# Altium footprint library qfc.PcbLib: 40 footprints (part 3 of 3)
Each footprint in its own frame and in the unit in brackets; x right, y up, seen from the top. Pads: shape width x height; smd on the part's side, far side on the other; paste and mask are expansions set on the pad; w line width, h text height; cw(c..) or ccw(c..) is an arc to the next point about the centre after c.
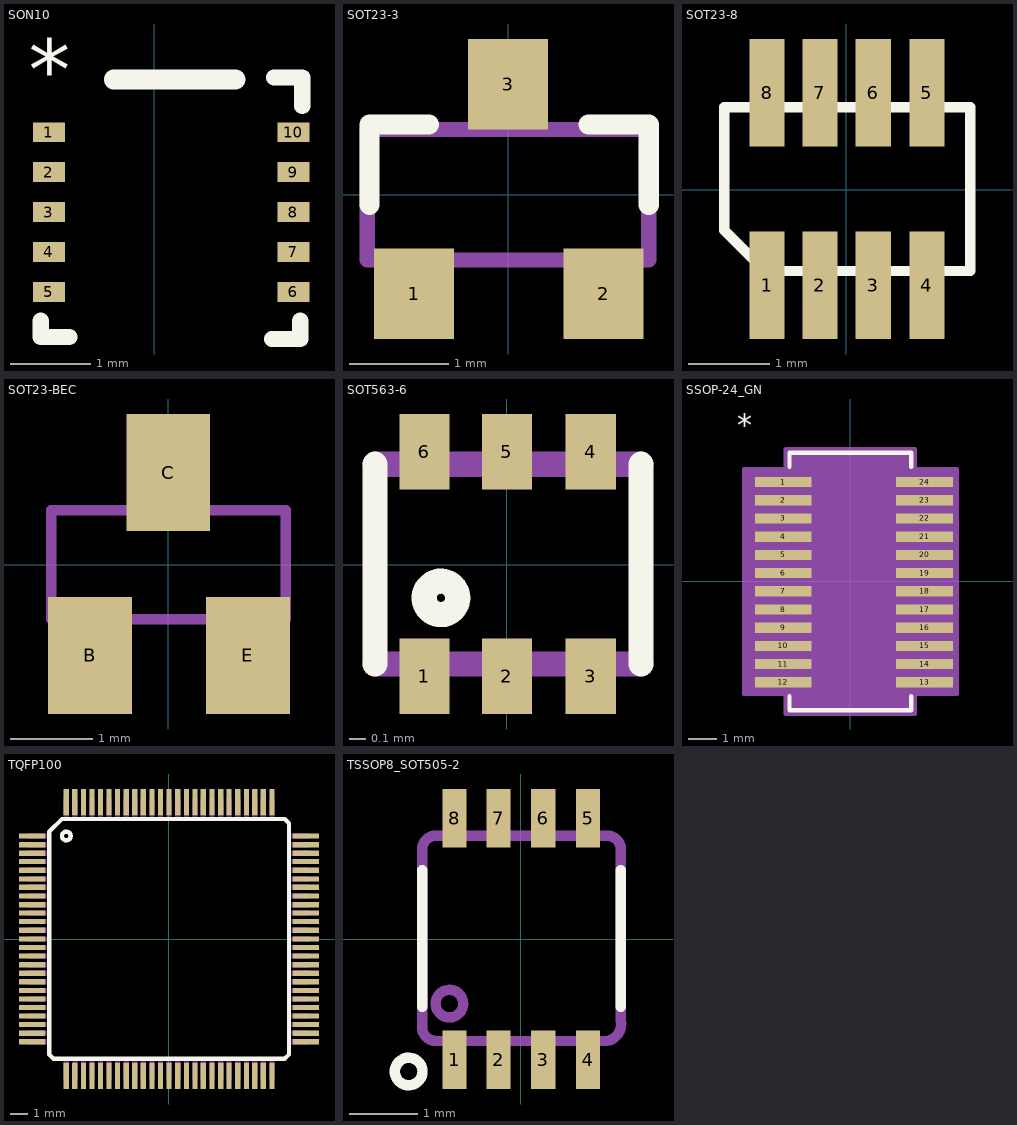
[diagram p2: the footprints below, top view; thin cyan lines are the x and y axes]

## SON10 [mm]
pads (10):
  rect 0.4x0.25 smd: 1(-1.321,-1.676) 2(-1.321,-2.176) 3(-1.321,-2.676) 4(-1.321,-3.176) 5(-1.321,-3.676) 6(1.743,-3.676) 7(1.743,-3.176) 8(1.743,-2.676) 9(1.743,-2.176) 10(1.743,-1.676)
Top Overlay:
  lines w0.203: -1.422,-4.039 -1.422,-4.242 -1.067,-4.242 ; 1.473,-4.267 1.829,-4.267 1.829,-4.039 ; 1.499,-0.991 1.854,-0.991 1.854,-1.346
  lines w0.25: -0.508,-1.016 1.016,-1.016
  text "*" at -1.575,-1.27 h0.76
3D body: height 1, standoff 0, extent -1.308,-4.055 1.714,-1.245

## SOT23-3 [mil] "SOT23-3"
pads (3):
  rect 32x36 smd: 1(-37.4,-39.37) 2(38,-39.37) 3(0,44)
Top Overlay:
  lines w8: -55.12,-3.94 -55.12,28 -31.5,28 ; 32,28 56,28 56,-3.94
Mechanical 16:
  lines w6: -56,-26 56,-26 56,26 -56,26 -56,-26
3D body: height 51.18, standoff 0, extent -57.09,-55.12 57.09,55.12

## SOT23-8 [mil] "SOT23-8"
pads (8):
  rect 17x52 smd: 1(-38.39,-46.26) 2(-12.8,-46.26) 3(13,-46.26) 4(39,-46.26) 5(39,47) 6(13,47) 7(-12.8,47) 8(-38.39,47)
Top Overlay:
  lines w5: -59.06,-19.68 -59.06,40 60,40 60,-39.37 -39.37,-39.37 -59.06,-19.68
3D body: height 43.6, standoff 0, extent -59.05,-55.19 59.06,55.19

## SOT23-BEC [mil] "SOT23-BEC"
pads (3):
  rect 40x56 smd: B(-37.4,-43.31) C(0,44) E(38,-43.31)
Mechanical 16:
  rectangle: -9,27.99 9,50.99
  rectangle: 28,-51.01 46,-28.01
  rectangle: -46,-51.01 -28,-28.01
  lines w5: -56,-26 56,-26 56,26 -56,26 -56,-26
3D body: height 51.18, standoff 0, extent -57.09,-55.12 57.09,55.12

## SOT563-6 [mil] "SOT563-6"
pads (6):
  rect 12x18 smd: 1(-19.68,-26.57) 2(0,-26.57) 3(20,-26.57) 4(20,27) 5(0,27) 6(-19.68,27)
Top Overlay:
  circle w6: c-15.75,-7.87 r4
  lines w6: -31.5,-23.62 -31.5,24 ; 32,-23.62 32,24
Mechanical 16:
  lines w6: -31.5,-23.62 32,-23.62 ; -31.5,24 32,24
3D body: height 23, standoff 0, extent -31.5,-32 31.5,32

## SSOP-24_GN [mil]
pads (24):
  rect 78x14 smd: 1(-92,136.5) 2(-92,111.5) 3(-92,86.5) 4(-92,61.5) 5(-92,36.5) 6(-92,11.5) 7(-92,-13.5) 8(-92,-38.5) 9(-92,-63.5) 10(-92,-88.5) 11(-92,-113.5) 12(-92,-138.5) 13(102,-138.5) 14(102,-113.5) 15(102,-88.5) 16(102,-63.5) 17(102,-38.5) 18(102,-13.5) 19(102,11.5) 20(102,36.5) 21(102,61.5) 22(102,86.5) 23(102,111.5) 24(102,136.5)
Top Overlay:
  lines w6: -83.5,-157.6 -83.5,-177 83.5,-177 83.5,-157.6 ; -83.5,157.6 -83.5,177 83.5,177 83.5,157.6
  text "*" at -155,200 h30
Mechanical 13:
  lines w0: -12,172 ccw(c0,172) 12,172
  text "*" at -110,200 h30
Mechanical 15:
  region: -88.5,-154.5 -146,-154.5 -146,154.5 -88.5,154.5 -88.5,182 88.5,182 88.5,154.5 146,154.5 146,-154.5 88.5,-154.5 88.5,-182 -88.5,-182
  lines w6: -146,-154.5 -146,154.5 -88.5,154.5 -88.5,182 88.5,182 88.5,154.5 146,154.5 146,-154.5 88.5,-154.5 88.5,-182 -88.5,-182 -88.5,-154.5 -146,-154.5
3D body: height 67.1, standoff 0, extent -125,-174 119,170

## TQFP100 [mil] "TQFP100"
pads (100):
  rect 60x12 smd: 1(-314.96,237) 2(-314.96,217) 3(-314.96,197) 4(-314.96,178) 5(-314.96,158) 6(-314.96,138) 7(-314.96,119) 8(-314.96,99) 9(-314.96,79) 12(-314.96,20) 13(-314.96,0) 14(-314.96,-19.69) 15(-314.96,-39.37) 16(-314.96,-59.06) 17(-314.96,-78.74) 18(-314.96,-98.43) 20(-314.96,-137.8) 21(-314.96,-157.48) 22(-314.96,-177.17) 23(-314.96,-196.85) 24(-314.96,-216.54) 25(-314.96,-236.22) 51(315,-236.22) 52(315,-216.54) 53(315,-196.85) 54(315,-177.17) 55(315,-157.48) 56(315,-137.8) 57(315,-118.11) 58(315,-98.43) 59(315,-78.74) 60(315,-59.06) 61(315,-39.37) 62(315,-19.69) 63(315,0) 64(315,20) 65(315,40) 66(315,60) 67(315,79) 68(315,99) 69(315,119) 70(315,138) 71(315,158) 72(315,178) 73(315,197) VDD(-314.96,-118.11) VDD(-314.96,40) VDD(315,237) VSS(-314.96,60) VSS(315,217)
  rect 12x60 smd: 26(-236.22,-314.96) 29(-177.17,-314.96) 30(-157.48,-314.96) 31(-137.8,-314.96) 32(-118.11,-314.96) 33(-98.43,-314.96) 34(-78.74,-314.96) 35(-59.06,-314.96) 36(-39.37,-314.96) 37(-19.69,-314.96) 38(0,-314.96) 39(20,-314.96) 40(40,-314.96) 41(60,-314.96) 42(79,-314.96) 44(119,-314.96) 45(138,-314.96) 46(158,-314.96) 47(178,-314.96) 48(197,-314.96) 49(217,-314.96) 76(237,315) 77(217,315) 78(197,315) 79(178,315) 80(158,315) 81(138,315) 82(119,315) 83(99,315) 84(79,315) 85(60,315) 86(40,315) 87(20,315) 88(0,315) 89(-19.69,315) 90(-39.37,315) 91(-59.06,315) 92(-78.74,315) 93(-98.43,315) 94(-118.11,315) 95(-137.8,315) 96(-157.48,315) 97(-177.17,315) 98(-196.85,315) VDD(-236.22,315) VDD(-196.85,-314.96) VDD(237,-314.96) VSS(-216.54,-314.96) VSS(-216.54,315)
  rect 12x59.06 smd: 43(99,-314.96)
Top Overlay:
  circle w10: c-236.22,237 r10
  lines w10: -275.59,-265.75 -275.59,247 -246.06,276 266,276 276,266 276,-265.75 266,-275.59 -265.75,-275.59 -275.59,-265.75
Mechanical 16:
  rectangle: -242.13,282 -230.31,323
  rectangle: -222.44,282 -210.63,323
  rectangle: -202.76,282 -190.94,323
  rectangle: -183.07,282 -171.26,323
  rectangle: -163.39,282 -151.57,323
  rectangle: -143.7,282 -131.89,323
  rectangle: -124.02,282 -112.2,323
  rectangle: -104.33,282 -92.52,323
  rectangle: -84.65,282 -72.83,323
  rectangle: -64.96,282 -53.15,323
  rectangle: -45.28,282 -33.46,323
  rectangle: -25.59,282 -13.78,323
  rectangle: -5.91,282 6,323
  rectangle: 14,282 26,323
  rectangle: 34,282 46,323
  rectangle: 54,282 65,323
  rectangle: 73,282 85,323
  rectangle: 93,282 105,323
  rectangle: 113,282 125,323
  rectangle: 132,282 144,323
  rectangle: 152,282 164,323
  rectangle: 172,282 184,323
  rectangle: 191,282 203,323
  rectangle: 211,282 223,323
  rectangle: 231,282 243,323
  rectangle: 282,231 323,243
  rectangle: 282,211 323,223
  rectangle: 282,191 323,203
  rectangle: 282,172 323,184
  rectangle: 282,152 323,164
  rectangle: 282,132 323,144
  rectangle: 282,113 323,125
  rectangle: 282,93 323,105
  rectangle: 282,73 323,85
  rectangle: 282,54 323,65
  rectangle: 282,34 323,46
  rectangle: 282,14 323,26
  rectangle: 282,-5.91 323,6
  rectangle: 282,-25.59 323,-13.78
  rectangle: 282,-45.28 323,-33.46
  rectangle: 282,-64.96 323,-53.15
  rectangle: 282,-84.65 323,-72.83
  rectangle: 282,-104.33 323,-92.52
  rectangle: 282,-124.02 323,-112.2
  rectangle: 282,-143.7 323,-131.89
  rectangle: 282,-163.39 323,-151.57
  rectangle: 282,-183.07 323,-171.26
  rectangle: 282,-202.76 323,-190.94
  rectangle: 282,-222.44 323,-210.63
  rectangle: 282,-242.13 323,-230.31
  rectangle: 231,-322.83 243,-281.5
  rectangle: 211,-322.83 223,-281.5
  rectangle: 191,-322.83 203,-281.5
  rectangle: 172,-322.83 184,-281.5
  rectangle: 152,-322.83 164,-281.5
  rectangle: 132,-322.83 144,-281.5
  rectangle: 113,-322.83 125,-281.5
  rectangle: 93,-322.83 105,-281.5
  rectangle: 73,-322.83 85,-281.5
  rectangle: 54,-322.83 65,-281.5
  rectangle: 34,-322.83 46,-281.5
  rectangle: 14,-322.83 26,-281.5
  rectangle: -5.91,-322.83 6,-281.5
  rectangle: -25.59,-322.83 -13.78,-281.5
  rectangle: -45.28,-322.83 -33.46,-281.5
  rectangle: -64.96,-322.83 -53.15,-281.5
  rectangle: -84.65,-322.83 -72.83,-281.5
  rectangle: -104.33,-322.83 -92.52,-281.5
  rectangle: -124.02,-322.83 -112.2,-281.5
  rectangle: -143.7,-322.83 -131.89,-281.5
  rectangle: -163.39,-322.83 -151.57,-281.5
  rectangle: -183.07,-322.83 -171.26,-281.5
  rectangle: -202.76,-322.83 -190.94,-281.5
  rectangle: -222.44,-322.83 -210.63,-281.5
  rectangle: -242.13,-322.83 -230.31,-281.5
  rectangle: -322.83,-242.13 -281.5,-230.31
  rectangle: -322.83,-222.44 -281.5,-210.63
  rectangle: -322.83,-202.76 -281.5,-190.94
  rectangle: -322.83,-183.07 -281.5,-171.26
  rectangle: -322.83,-163.39 -281.5,-151.57
  rectangle: -322.83,-143.7 -281.5,-131.89
  rectangle: -322.83,-124.02 -281.5,-112.2
  rectangle: -322.83,-104.33 -281.5,-92.52
  rectangle: -322.83,-84.65 -281.5,-72.83
  rectangle: -322.83,-64.96 -281.5,-53.15
  rectangle: -322.83,-45.28 -281.5,-33.46
  rectangle: -322.83,-25.59 -281.5,-13.78
  rectangle: -322.83,-5.91 -281.5,6
  rectangle: -322.83,14 -281.5,26
  rectangle: -322.83,34 -281.5,46
  rectangle: -322.83,54 -281.5,65
  rectangle: -322.83,73 -281.5,85
  rectangle: -322.83,93 -281.5,105
  rectangle: -322.83,113 -281.5,125
  rectangle: -322.83,132 -281.5,144
  rectangle: -322.83,152 -281.5,164
  rectangle: -322.83,172 -281.5,184
  rectangle: -322.83,191 -281.5,203
  rectangle: -322.83,211 -281.5,223
  rectangle: -322.83,231 -281.5,243
  lines w1: -275.59,-263.78 -275.59,249 -248.03,276 264,276 276,264 276,-263.78 264,-275.59 -263.78,-275.59 -275.59,-263.78
3D body: height 47.24, standoff 0.03, extent -314.96,-314.96 314.96,314.96

## TSSOP8_SOT505-2 [mil] "TSSOP8_SOT505-2"
pads (8):
  rect 14x34 smd: 1(-38.39,-69.88) 2(-12.8,-69.88) 3(13,-69.88) 4(39,-69.88) 5(39,70) 6(13,70) 7(-12.8,70) 8(-38.39,70)
Top Overlay:
  circle w6: c-64.96,-76.77 r8
  lines w6: -57.09,-39.37 -57.09,40 ; 58,-39.37 58,40
Mechanical 16:
  circle w6: c-41.34,-37.4 r8
  rectangle: -43.3,-78.74 -33.46,-61.02
  rectangle: -17.71,-78.74 -7.87,-61.02
  rectangle: 8.04,-78.74 18.04,-61.02
  rectangle: 34.04,-78.74 44.04,-61.02
  rectangle: -43.3,61.99 -33.46,78.99
  rectangle: -17.71,61.99 -7.87,78.99
  rectangle: 8,62 18,79
  rectangle: 34,62 44,79
  lines w1: -57.09,-53.15 -51.18,-59.06 52,-59.06 58,-53.15 58,54 52,60 -51.18,60 -57.09,54 -57.09,-53.15
  lines w6: -57.09,-51.18 ccw(c-49.21,-51.18) -49.21,-59.06 50,-59.06 ccw(c48.09,-49.15) 58,-47.24 58,52 ccw(c50,52) 50,60 -49.21,60 ccw(c-49.15,52.06) -57.09,52 -57.09,-51.18
3D body: height 43.31, standoff 0, extent -61.02,-80.71 61.02,80.71